# Altium integrated library Transistor.IntLib: 3457 symbols (part 8 of 78)
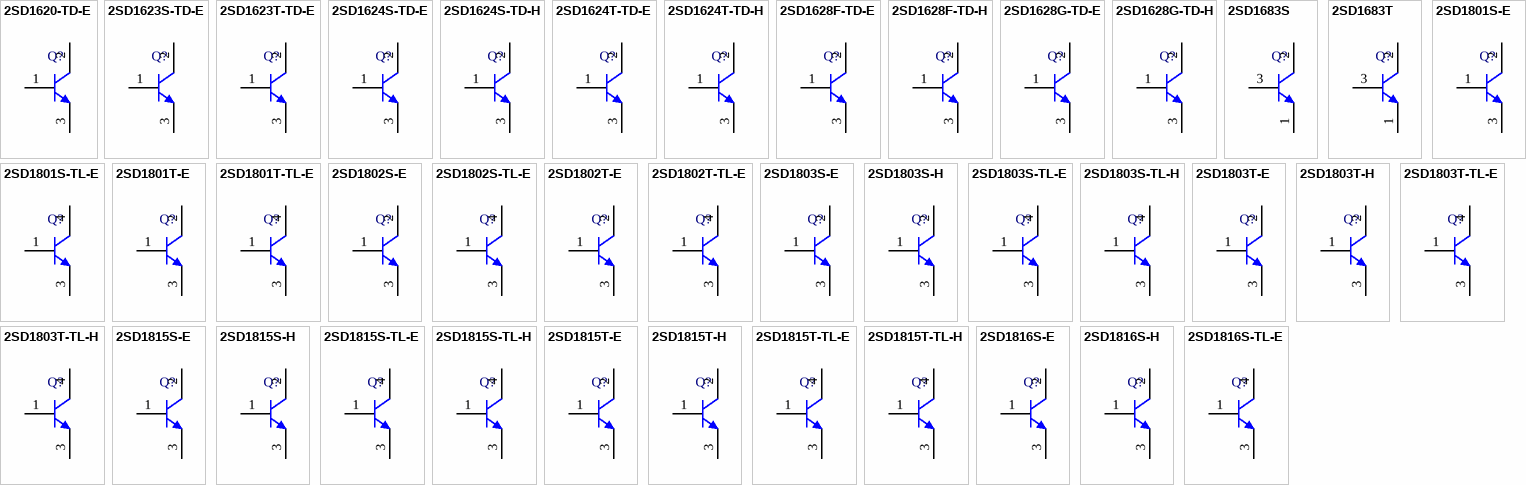
[diagram p101: symbols 2SD1620-TD-E to 2SD1816S-TL-E]

## 2SD1803S-TL-E
designator Q?
Bipolar Transistor, 50 V, 5 A, Low VCE(sat), NPN Single, 3-Pin TP-FA, Pb-Free, Tape and Reel; Manufacturer: On Semiconductor; PartNumber: 2SD1803S-TL-E; IC Continuous (A): 5; PackageVersion: Rev. O, 01/2012; PackageReference: TP-FA-3-369AH; PackageDescription: 3-Pin Flange Mount, Body 6.5 x 5.5 mm, Pitch 2.3 mm; Supplier 1: Digi-Key; Supplier Part Number 1: 2SD1803S-TL-E-ND; Supplier 2: Mouser; Supplier Part Number 2: 863-2SD1803S-TL-E; Packing: Tape and Reel; Polarity: NPN; RoHS: TRUE; Mounting Technology: Surface Mount; ComponentLink1Description: Manufacturer URL; ComponentLink1URL: http://www.onsemi.com/; ComponentLink2Description: Datasheet; ComponentLink2URL: http://www.onsemi.com/pub_link/Collateral/EN2085-D.PDF; ComponentLink3Description: Package Specification; ComponentLink3URL: http://www.onsemi.com/pub_link/Collateral/369AH.PDF
footprint ONSC-TP-FA-3-369AH_V (DPAK, 3-Leads, Body 6.5x5.5mm, Pitch 2.3mm)
pins: 1 B, 3 E, 4 C

## 2SD1803S-TL-H
designator Q?
Bipolar Transistor, 50 V, 5 A, Low VCE(sat), NPN Single, 3-Pin TP-FA, Pb-Free, Tape and Reel; Manufacturer: On Semiconductor; PartNumber: 2SD1803S-TL-H; IC Continuous (A): 5; PackageVersion: Rev. O, 01/2012; PackageReference: TP-FA-3-369AH; PackageDescription: 3-Pin Flange Mount, Body 6.5 x 5.5 mm, Pitch 2.3 mm; Supplier 1: Digi-Key; Supplier Part Number 1: 2SD1803S-TL-H-ND; Supplier 2: Mouser; Supplier Part Number 2: 863-2SD1803S-TL-H; Packing: Tape and Reel; Polarity: NPN; RoHS: TRUE; Mounting Technology: Surface Mount; ComponentLink1Description: Manufacturer URL; ComponentLink1URL: http://www.onsemi.com/; ComponentLink2Description: Datasheet; ComponentLink2URL: http://www.onsemi.com/pub_link/Collateral/EN2085-D.PDF; ComponentLink3Description: Package Specification; ComponentLink3URL: http://www.onsemi.com/pub_link/Collateral/369AH.PDF
footprint ONSC-TP-FA-3-369AH_V (DPAK, 3-Leads, Body 6.5x5.5mm, Pitch 2.3mm)
pins: 1 B, 3 E, 4 C

## 2SD1803T-E
designator Q?
Bipolar Transistor, 50 V, 5 A, Low VCE(sat), NPN Single, 3-Pin IPAK, Pb-Free, Bulk Bag; Manufacturer: On Semiconductor; PartNumber: 2SD1803T-E; IC Continuous (A): 5; PackageVersion: Rev. O, 01/2012; PackageReference: IPAK-3-369AJ; PackageDescription: 3-Pin Flange Mount, Vertical Straight Lead, Body 6.5 x 5.5 mm, Pitch 2.3 mm; Supplier 1: Digi-Key; Supplier Part Number 1: 2SD1803T-E-ND; Supplier 2: Mouser; Supplier Part Number 2: 863-2SD1803T-E; Packing: Bulk Bag; Polarity: NPN; RoHS: TRUE; Mounting Technology: Through Hole; ComponentLink1Description: Manufacturer URL; ComponentLink1URL: http://www.onsemi.com/; ComponentLink2Description: Datasheet; ComponentLink2URL: http://www.onsemi.com/pub_link/Collateral/EN2085-D.PDF; ComponentLink3Description: Package Specification; ComponentLink3URL: http://www.onsemi.cn/pub_link/Collateral/369AJ.PDF
footprint ONSC-IPAK-3-369AJ (FM, 3-Leads, Body 6.7x2.5mm, Pitch 2.3mm)
pins: 1 B, 2 C, 3 E

## 2SD1803T-H
designator Q?
Bipolar Transistor, 50 V, 5 A, Low VCE(sat), NPN Single, 3-Pin IPAK, Pb-Free, Bulk Bag; Manufacturer: On Semiconductor; PartNumber: 2SD1803T-H; IC Continuous (A): 5; PackageVersion: Rev. O, 01/2012; PackageReference: IPAK-3-369AJ; PackageDescription: 3-Pin Flange Mount, Vertical Straight Lead, Body 6.5 x 5.5 mm, Pitch 2.3 mm; Supplier 1: Digi-Key; Supplier Part Number 1: 2SD1803T-H-ND; Supplier 2: Mouser; Supplier Part Number 2: 863-2SD1803T-H; Packing: Bulk Bag; Polarity: NPN; RoHS: TRUE; Mounting Technology: Through Hole; ComponentLink1Description: Manufacturer URL; ComponentLink1URL: http://www.onsemi.com/; ComponentLink2Description: Datasheet; ComponentLink2URL: http://www.onsemi.com/pub_link/Collateral/EN2085-D.PDF; ComponentLink3Description: Package Specification; ComponentLink3URL: http://www.onsemi.cn/pub_link/Collateral/369AJ.PDF
footprint ONSC-IPAK-3-369AJ (FM, 3-Leads, Body 6.7x2.5mm, Pitch 2.3mm)
pins: 1 B, 2 C, 3 E

## 2SD1803T-TL-E
designator Q?
Bipolar Transistor, 50 V, 5 A, Low VCE(sat), NPN Single, 3-Pin TP-FA, Pb-Free, Tape and Reel; Manufacturer: On Semiconductor; PartNumber: 2SD1803T-TL-E; IC Continuous (A): 5; PackageVersion: Rev. O, 01/2012; PackageReference: TP-FA-3-369AH; PackageDescription: 3-Pin Flange Mount, Body 6.5 x 5.5 mm, Pitch 2.3 mm; Supplier 1: Digi-Key; Supplier Part Number 1: 2SD1803T-TL-E-ND; Supplier 2: Mouser; Supplier Part Number 2: 863-2SD1803T-TL-E; Packing: Tape and Reel; Polarity: NPN; RoHS: TRUE; Mounting Technology: Surface Mount; ComponentLink1Description: Manufacturer URL; ComponentLink1URL: http://www.onsemi.com/; ComponentLink2Description: Datasheet; ComponentLink2URL: http://www.onsemi.com/pub_link/Collateral/EN2085-D.PDF; ComponentLink3Description: Package Specification; ComponentLink3URL: http://www.onsemi.com/pub_link/Collateral/369AH.PDF
footprint ONSC-TP-FA-3-369AH_V (DPAK, 3-Leads, Body 6.5x5.5mm, Pitch 2.3mm)
pins: 1 B, 3 E, 4 C

## 2SD1803T-TL-H
designator Q?
Bipolar Transistor, 50 V, 5 A, Low VCE(sat), NPN Single, 3-Pin TP-FA, Pb-Free, Tape and Reel; Manufacturer: On Semiconductor; PartNumber: 2SD1803T-TL-H; IC Continuous (A): 5; PackageVersion: Rev. O, 01/2012; PackageReference: TP-FA-3-369AH; PackageDescription: 3-Pin Flange Mount, Body 6.5 x 5.5 mm, Pitch 2.3 mm; Supplier 1: Digi-Key; Supplier Part Number 1: 2SD1803T-TL-H-ND; Supplier 2: Mouser; Supplier Part Number 2: 863-2SD1803T-TL-H; Packing: Tape and Reel; Polarity: NPN; RoHS: TRUE; Mounting Technology: Surface Mount; ComponentLink1Description: Manufacturer URL; ComponentLink1URL: http://www.onsemi.com/; ComponentLink2Description: Datasheet; ComponentLink2URL: http://www.onsemi.com/pub_link/Collateral/EN2085-D.PDF; ComponentLink3Description: Package Specification; ComponentLink3URL: http://www.onsemi.com/pub_link/Collateral/369AH.PDF
footprint ONSC-TP-FA-3-369AH_V (DPAK, 3-Leads, Body 6.5x5.5mm, Pitch 2.3mm)
pins: 1 B, 3 E, 4 C

## 2SD1815S-E
designator Q?
Bipolar Transistor, 100 V, 3 A, Low VCE(sat), NPN Single, 3-Pin IPAK, Pb-Free, Bulk Bag; Manufacturer: On Semiconductor; PartNumber: 2SD1815S-E; IC Continuous (A): 3; PackageVersion: Rev. O, 01/2012; PackageReference: IPAK-3-369AJ; PackageDescription: 3-Pin Flange Mount, Vertical Straight Lead, Body 6.5 x 5.5 mm, Pitch 2.3 mm; Supplier 1: Digi-Key; Supplier Part Number 1: 2SD1815S-E-ND; Supplier 2: Newark; Supplier Part Number 2: 65T2526; Supplier 3: Mouser; Supplier Part Number 3: 863-2SD1815S-E; Packing: Bulk Bag; Polarity: NPN; RoHS: TRUE; Mounting Technology: Through Hole; ComponentLink1Description: Manufacturer URL; ComponentLink1URL: http://www.onsemi.com/; ComponentLink2Description: Datasheet; ComponentLink2URL: http://www.onsemi.com/pub/Collateral/EN2539-D.PDF; ComponentLink3Description: Package Specification; ComponentLink3URL: http://www.onsemi.cn/pub_link/Collateral/369AJ.PDF
footprint ONSC-IPAK-3-369AJ (FM, 3-Leads, Body 6.7x2.5mm, Pitch 2.3mm)
pins: 1 B, 2 C, 3 E

## 2SD1815S-H
designator Q?
Bipolar Transistor, 100 V, 3 A, Low VCE(sat), NPN Single, 3-Pin IPAK, Pb-Free, Bulk Bag; Manufacturer: On Semiconductor; PartNumber: 2SD1815S-H; IC Continuous (A): 3; PackageVersion: Rev. O, 01/2012; PackageReference: IPAK-3-369AJ; PackageDescription: 3-Pin Flange Mount, Vertical Straight Lead, Body 6.5 x 5.5 mm, Pitch 2.3 mm; Supplier 1: Digi-Key; Supplier Part Number 1: 2SD1815S-H-ND; Supplier 2: Mouser; Supplier Part Number 2: 863-2SD1815S-H; Packing: Bulk Bag; Polarity: NPN; RoHS: TRUE; Mounting Technology: Through Hole; ComponentLink1Description: Manufacturer URL; ComponentLink1URL: http://www.onsemi.com/; ComponentLink2Description: Datasheet; ComponentLink2URL: http://www.onsemi.com/pub/Collateral/EN2539-D.PDF; ComponentLink3Description: Package Specification; ComponentLink3URL: http://www.onsemi.cn/pub_link/Collateral/369AJ.PDF
footprint ONSC-IPAK-3-369AJ (FM, 3-Leads, Body 6.7x2.5mm, Pitch 2.3mm)
pins: 1 B, 2 C, 3 E

## 2SD1815S-TL-E
designator Q?
Bipolar Transistor, 100 V, 3 A, Low VCE(sat), NPN Single, 3-Pin TP-FA, Pb-Free, Tape and Reel; Manufacturer: On Semiconductor; PartNumber: 2SD1815S-TL-E; IC Continuous (A): 3; PackageVersion: Rev. O, 01/2012; PackageReference: TP-FA-3-369AH; PackageDescription: 3-Pin Flange Mount, Body 6.5 x 5.5 mm, Pitch 2.3 mm; Supplier 1: Digi-Key; Supplier Part Number 1: 2SD1815S-TL-E-ND; Supplier 2: Mouser; Supplier Part Number 2: 863-2SD1815S-TL-E; Packing: Tape and Reel; Polarity: NPN; RoHS: TRUE; Mounting Technology: Surface Mount; ComponentLink1Description: Manufacturer URL; ComponentLink1URL: http://www.onsemi.com/; ComponentLink2Description: Datasheet; ComponentLink2URL: http://www.onsemi.com/pub/Collateral/EN2539-D.PDF; ComponentLink3Description: Package Specification; ComponentLink3URL: http://www.onsemi.com/pub_link/Collateral/369AH.PDF
footprint ONSC-TP-FA-3-369AH_V (DPAK, 3-Leads, Body 6.5x5.5mm, Pitch 2.3mm)
pins: 1 B, 3 E, 4 C

## 2SD1815S-TL-H
designator Q?
Bipolar Transistor, 100 V, 3 A, Low VCE(sat), NPN Single, 3-Pin TP-FA, Pb-Free, Tape and Reel; Manufacturer: On Semiconductor; PartNumber: 2SD1815S-TL-H; IC Continuous (A): 3; PackageVersion: Rev. O, 01/2012; PackageReference: TP-FA-3-369AH; PackageDescription: 3-Pin Flange Mount, Body 6.5 x 5.5 mm, Pitch 2.3 mm; Supplier 1: Digi-Key; Supplier Part Number 1: 2SD1815S-TL-H-ND; Supplier 2: Newark; Supplier Part Number 2: 07W7712; Supplier 3: Mouser; Supplier Part Number 3: 863-2SD1815S-TL-H; Packing: Tape and Reel; Polarity: NPN; RoHS: TRUE; Mounting Technology: Surface Mount; ComponentLink1Description: Manufacturer URL; ComponentLink1URL: http://www.onsemi.com/; ComponentLink2Description: Datasheet; ComponentLink2URL: http://www.onsemi.com/pub/Collateral/EN2539-D.PDF; ComponentLink3Description: Package Specification; ComponentLink3URL: http://www.onsemi.com/pub_link/Collateral/369AH.PDF
footprint ONSC-TP-FA-3-369AH_V (DPAK, 3-Leads, Body 6.5x5.5mm, Pitch 2.3mm)
pins: 1 B, 3 E, 4 C

## 2SD1815T-E
designator Q?
Bipolar Transistor, 100 V, 3 A, Low VCE(sat), NPN Single, 3-Pin IPAK, Pb-Free, Bulk Bag; Manufacturer: On Semiconductor; PartNumber: 2SD1815T-E; IC Continuous (A): 3; PackageVersion: Rev. O, 01/2012; PackageReference: IPAK-3-369AJ; PackageDescription: 3-Pin Flange Mount, Vertical Straight Lead, Body 6.5 x 5.5 mm, Pitch 2.3 mm; Supplier 1: Digi-Key; Supplier Part Number 1: 2SD1815T-E-ND; Supplier 2: Newark; Supplier Part Number 2: 65T2528; Supplier 3: Mouser; Supplier Part Number 3: 863-2SD1815T-E; Packing: Bulk Bag; Polarity: NPN; RoHS: TRUE; Mounting Technology: Through Hole; ComponentLink1Description: Manufacturer URL; ComponentLink1URL: http://www.onsemi.com/; ComponentLink2Description: Datasheet; ComponentLink2URL: http://www.onsemi.com/pub/Collateral/EN2539-D.PDF; ComponentLink3Description: Package Specification; ComponentLink3URL: http://www.onsemi.cn/pub_link/Collateral/369AJ.PDF
footprint ONSC-IPAK-3-369AJ (FM, 3-Leads, Body 6.7x2.5mm, Pitch 2.3mm)
pins: 1 B, 2 C, 3 E

## 2SD1815T-H
designator Q?
Bipolar Transistor, 100 V, 3 A, Low VCE(sat), NPN Single, 3-Pin IPAK, Pb-Free, Bulk Bag; Manufacturer: On Semiconductor; PartNumber: 2SD1815T-H; IC Continuous (A): 3; PackageVersion: Rev. O, 01/2012; PackageReference: IPAK-3-369AJ; PackageDescription: 3-Pin Flange Mount, Vertical Straight Lead, Body 6.5 x 5.5 mm, Pitch 2.3 mm; Supplier 1: Digi-Key; Supplier Part Number 1: 2SD1815T-H-ND; Supplier 2: Mouser; Supplier Part Number 2: 863-2SD1815T-H; Packing: Bulk Bag; Polarity: NPN; RoHS: TRUE; Mounting Technology: Through Hole; ComponentLink1Description: Manufacturer URL; ComponentLink1URL: http://www.onsemi.com/; ComponentLink2Description: Datasheet; ComponentLink2URL: http://www.onsemi.com/pub/Collateral/EN2539-D.PDF; ComponentLink3Description: Package Specification; ComponentLink3URL: http://www.onsemi.cn/pub_link/Collateral/369AJ.PDF
footprint ONSC-IPAK-3-369AJ (FM, 3-Leads, Body 6.7x2.5mm, Pitch 2.3mm)
pins: 1 B, 2 C, 3 E

## 2SD1815T-TL-E
designator Q?
Bipolar Transistor, 100 V, 3 A, Low VCE(sat), NPN Single, 3-Pin TP-FA, Pb-Free, Tape and Reel; Manufacturer: On Semiconductor; PartNumber: 2SD1815T-TL-E; IC Continuous (A): 3; PackageVersion: Rev. O, 01/2012; PackageReference: TP-FA-3-369AH; PackageDescription: 3-Pin Flange Mount, Body 6.5 x 5.5 mm, Pitch 2.3 mm; Supplier 1: Digi-Key; Supplier Part Number 1: 2SD1815T-TL-E-ND; Supplier 2: Mouser; Supplier Part Number 2: 863-2SD1815T-TL-E; Packing: Tape and Reel; Polarity: NPN; RoHS: TRUE; Mounting Technology: Surface Mount; ComponentLink1Description: Manufacturer URL; ComponentLink1URL: http://www.onsemi.com/; ComponentLink2Description: Datasheet; ComponentLink2URL: http://www.onsemi.com/pub/Collateral/EN2539-D.PDF; ComponentLink3Description: Package Specification; ComponentLink3URL: http://www.onsemi.com/pub_link/Collateral/369AH.PDF
footprint ONSC-TP-FA-3-369AH_V (DPAK, 3-Leads, Body 6.5x5.5mm, Pitch 2.3mm)
pins: 1 B, 3 E, 4 C

## 2SD1815T-TL-H
designator Q?
Bipolar Transistor, 100 V, 3 A, Low VCE(sat), NPN Single, 3-Pin TP-FA, Pb-Free, Tape and Reel; Manufacturer: On Semiconductor; PartNumber: 2SD1815T-TL-H; IC Continuous (A): 3; PackageVersion: Rev. O, 01/2012; PackageReference: TP-FA-3-369AH; PackageDescription: 3-Pin Flange Mount, Body 6.5 x 5.5 mm, Pitch 2.3 mm; Supplier 1: Digi-Key; Supplier Part Number 1: 2SD1815T-TL-H-ND; Supplier 2: Newark; Supplier Part Number 2: 07W7714; Supplier 3: Mouser; Supplier Part Number 3: 863-2SD1815T-TL-H; Packing: Tape and Reel; Polarity: NPN; RoHS: TRUE; Mounting Technology: Surface Mount; ComponentLink1Description: Manufacturer URL; ComponentLink1URL: http://www.onsemi.com/; ComponentLink2Description: Datasheet; ComponentLink2URL: http://www.onsemi.com/pub/Collateral/EN2539-D.PDF; ComponentLink3Description: Package Specification; ComponentLink3URL: http://www.onsemi.com/pub_link/Collateral/369AH.PDF
footprint ONSC-TP-FA-3-369AH_V (DPAK, 3-Leads, Body 6.5x5.5mm, Pitch 2.3mm)
pins: 1 B, 3 E, 4 C

## 2SD1816S-E
designator Q?
Bipolar Transistor, 100 V, 4 A, Low VCE(sat), NPN Single, 3-Pin IPAK, Pb-Free, Bulk Bag; Manufacturer: On Semiconductor; PartNumber: 2SD1816S-E; IC Continuous (A): 4; PackageVersion: Rev. O, 01/2012; PackageReference: IPAK-3-369AJ; PackageDescription: 3-Pin Flange Mount, Vertical Straight Lead, Body 6.5 x 5.5 mm, Pitch 2.3 mm; Supplier 1: Digi-Key; Supplier Part Number 1: 2SD1816S-E-ND; Supplier 2: Mouser; Supplier Part Number 2: 863-2SD1816S-E; Packing: Bulk Bag; Polarity: NPN; RoHS: TRUE; Mounting Technology: Through Hole; ComponentLink1Description: Manufacturer URL; ComponentLink1URL: http://www.onsemi.com/; ComponentLink2Description: Datasheet; ComponentLink2URL: http://www.onsemi.com/pub_link/Collateral/EN2540-D.PDF; ComponentLink3Description: Package Specification; ComponentLink3URL: http://www.onsemi.cn/pub_link/Collateral/369AJ.PDF
footprint ONSC-IPAK-3-369AJ (FM, 3-Leads, Body 6.7x2.5mm, Pitch 2.3mm)
pins: 1 B, 2 C, 3 E

## 2SD1816S-H
designator Q?
Bipolar Transistor, 100 V, 4 A, Low VCE(sat), NPN Single, 3-Pin IPAK, Pb-Free, Bulk Bag; Manufacturer: On Semiconductor; PartNumber: 2SD1816S-H; IC Continuous (A): 4; PackageVersion: Rev. O, 01/2012; PackageReference: IPAK-3-369AJ; PackageDescription: 3-Pin Flange Mount, Vertical Straight Lead, Body 6.5 x 5.5 mm, Pitch 2.3 mm; Supplier 1: Digi-Key; Supplier Part Number 1: 2SD1816S-H-ND; Supplier 2: Mouser; Supplier Part Number 2: 863-2SD1816S-H; Packing: Bulk Bag; Polarity: NPN; RoHS: TRUE; Mounting Technology: Through Hole; ComponentLink1Description: Manufacturer URL; ComponentLink1URL: http://www.onsemi.com/; ComponentLink2Description: Datasheet; ComponentLink2URL: http://www.onsemi.com/pub_link/Collateral/EN2540-D.PDF; ComponentLink3Description: Package Specification; ComponentLink3URL: http://www.onsemi.cn/pub_link/Collateral/369AJ.PDF
footprint ONSC-IPAK-3-369AJ (FM, 3-Leads, Body 6.7x2.5mm, Pitch 2.3mm)
pins: 1 B, 2 C, 3 E

## 2SD1816S-TL-E
designator Q?
Bipolar Transistor, 100 V, 4 A, Low VCE(sat), NPN Single, 3-Pin TP-FA, Pb-Free, Tape and Reel; Manufacturer: On Semiconductor; PartNumber: 2SD1816S-TL-E; IC Continuous (A): 4; PackageVersion: Rev. O, 01/2012; PackageReference: TP-FA-3-369AH; PackageDescription: 3-Pin Flange Mount, Body 6.5 x 5.5 mm, Pitch 2.3 mm; Supplier 1: Digi-Key; Supplier Part Number 1: 2SD1816S-TL-E-ND; Supplier 2: Mouser; Supplier Part Number 2: 863-2SD1816S-TL-E; Packing: Tape and Reel; Polarity: NPN; RoHS: TRUE; Mounting Technology: Surface Mount; ComponentLink1Description: Manufacturer URL; ComponentLink1URL: http://www.onsemi.com/; ComponentLink2Description: Datasheet; ComponentLink2URL: http://www.onsemi.com/pub_link/Collateral/EN2540-D.PDF; ComponentLink3Description: Package Specification; ComponentLink3URL: http://www.onsemi.com/pub_link/Collateral/369AH.PDF
footprint ONSC-TP-FA-3-369AH_V (DPAK, 3-Leads, Body 6.5x5.5mm, Pitch 2.3mm)
pins: 1 B, 3 E, 4 C

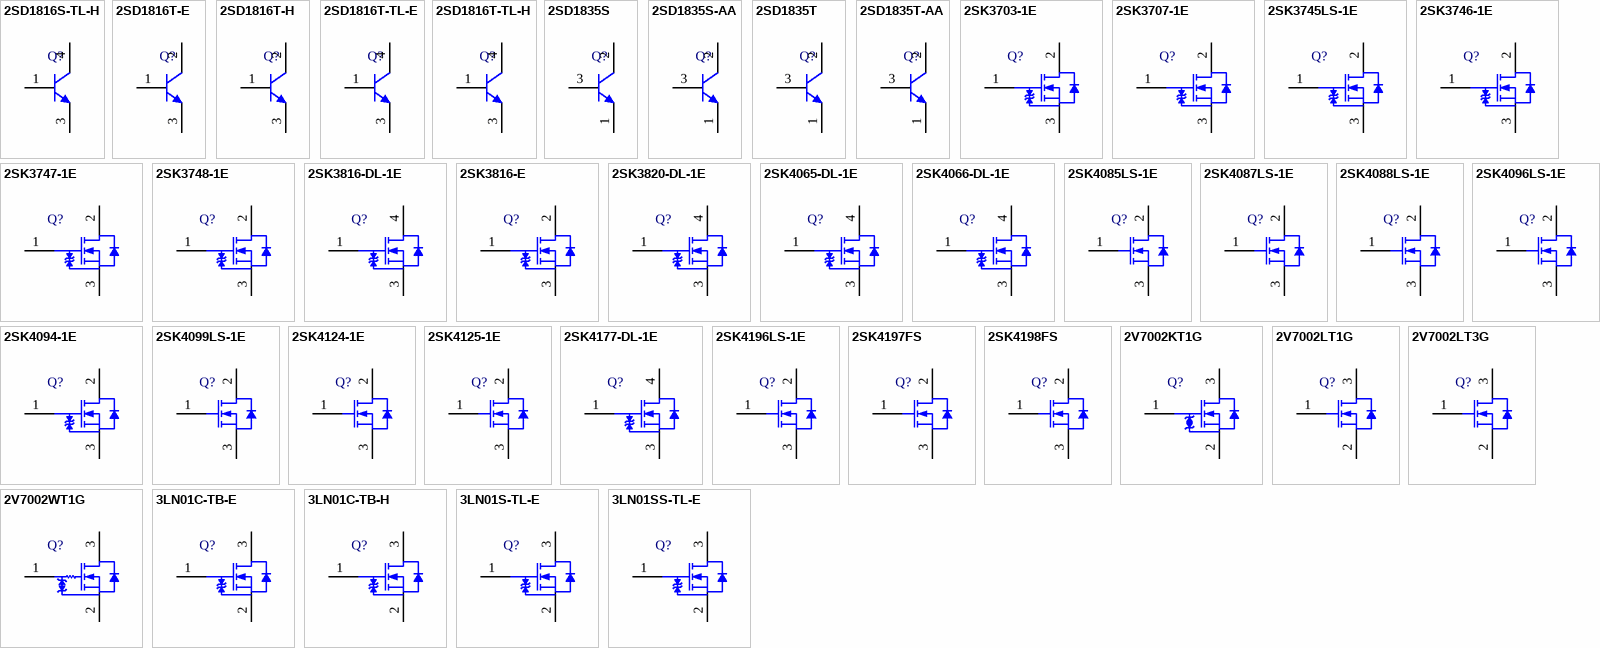
[diagram p9: symbols 2SD1816S-TL-H to 3LN01SS-TL-E]

## 2SD1816S-TL-H
designator Q?
Bipolar Transistor, 100 V, 4 A, Low VCE(sat), NPN Single, 3-Pin TP-FA, Pb-Free, Tape and Reel; Manufacturer: On Semiconductor; PartNumber: 2SD1816S-TL-H; IC Continuous (A): 4; PackageVersion: Rev. O, 01/2012; PackageReference: TP-FA-3-369AH; PackageDescription: 3-Pin Flange Mount, Body 6.5 x 5.5 mm, Pitch 2.3 mm; Supplier 1: Digi-Key; Supplier Part Number 1: 2SD1816S-TL-H-ND; Supplier 2: Mouser; Supplier Part Number 2: 863-2SD1816S-TL-H; Packing: Tape and Reel; Polarity: NPN; RoHS: TRUE; Mounting Technology: Surface Mount; ComponentLink1Description: Manufacturer URL; ComponentLink1URL: http://www.onsemi.com/; ComponentLink2Description: Datasheet; ComponentLink2URL: http://www.onsemi.com/pub_link/Collateral/EN2540-D.PDF; ComponentLink3Description: Package Specification; ComponentLink3URL: http://www.onsemi.com/pub_link/Collateral/369AH.PDF
footprint ONSC-TP-FA-3-369AH_V (DPAK, 3-Leads, Body 6.5x5.5mm, Pitch 2.3mm)
pins: 1 B, 3 E, 4 C

## 2SD1816T-E
designator Q?
Bipolar Transistor, 100 V, 4 A, Low VCE(sat), NPN Single, 3-Pin IPAK, Pb-Free, Bulk Bag; Manufacturer: On Semiconductor; PartNumber: 2SD1816T-E; IC Continuous (A): 4; PackageVersion: Rev. O, 01/2012; PackageReference: IPAK-3-369AJ; PackageDescription: 3-Pin Flange Mount, Vertical Straight Lead, Body 6.5 x 5.5 mm, Pitch 2.3 mm; Supplier 1: Digi-Key; Supplier Part Number 1: 2SD1816T-E-ND; Supplier 2: Mouser; Supplier Part Number 2: 863-2SD1816T-E; Packing: Bulk Bag; Polarity: NPN; RoHS: TRUE; Mounting Technology: Through Hole; ComponentLink1Description: Manufacturer URL; ComponentLink1URL: http://www.onsemi.com/; ComponentLink2Description: Datasheet; ComponentLink2URL: http://www.onsemi.com/pub_link/Collateral/EN2540-D.PDF; ComponentLink3Description: Package Specification; ComponentLink3URL: http://www.onsemi.cn/pub_link/Collateral/369AJ.PDF
footprint ONSC-IPAK-3-369AJ (FM, 3-Leads, Body 6.7x2.5mm, Pitch 2.3mm)
pins: 1 B, 2 C, 3 E

## 2SD1816T-H
designator Q?
Bipolar Transistor, 100 V, 4 A, Low VCE(sat), NPN Single, 3-Pin IPAK, Pb-Free, Bulk Bag; Manufacturer: On Semiconductor; PartNumber: 2SD1816T-H; IC Continuous (A): 4; PackageVersion: Rev. O, 01/2012; PackageReference: IPAK-3-369AJ; PackageDescription: 3-Pin Flange Mount, Vertical Straight Lead, Body 6.5 x 5.5 mm, Pitch 2.3 mm; Supplier 1: Digi-Key; Supplier Part Number 1: 2SD1816T-H-ND; Supplier 2: Mouser; Supplier Part Number 2: 863-2SD1816T-H; Packing: Bulk Bag; Polarity: NPN; RoHS: TRUE; Mounting Technology: Through Hole; ComponentLink1Description: Manufacturer URL; ComponentLink1URL: http://www.onsemi.com/; ComponentLink2Description: Datasheet; ComponentLink2URL: http://www.onsemi.com/pub_link/Collateral/EN2540-D.PDF; ComponentLink3Description: Package Specification; ComponentLink3URL: http://www.onsemi.cn/pub_link/Collateral/369AJ.PDF
footprint ONSC-IPAK-3-369AJ (FM, 3-Leads, Body 6.7x2.5mm, Pitch 2.3mm)
pins: 1 B, 2 C, 3 E

## 2SD1816T-TL-E
designator Q?
Bipolar Transistor, 100 V, 4 A, Low VCE(sat), NPN Single, 3-Pin TP-FA, Pb-Free, Tape and Reel; Manufacturer: On Semiconductor; PartNumber: 2SD1816T-TL-E; IC Continuous (A): 4; PackageVersion: Rev. O, 01/2012; PackageReference: TP-FA-3-369AH; PackageDescription: 3-Pin Flange Mount, Body 6.5 x 5.5 mm, Pitch 2.3 mm; Supplier 1: Digi-Key; Supplier Part Number 1: 2SD1816T-TL-E-ND; Supplier 2: Mouser; Supplier Part Number 2: 863-2SD1816T-TL-E; Packing: Tape and Reel; Polarity: NPN; RoHS: TRUE; Mounting Technology: Surface Mount; ComponentLink1Description: Manufacturer URL; ComponentLink1URL: http://www.onsemi.com/; ComponentLink2Description: Datasheet; ComponentLink2URL: http://www.onsemi.com/pub_link/Collateral/EN2540-D.PDF; ComponentLink3Description: Package Specification; ComponentLink3URL: http://www.onsemi.com/pub_link/Collateral/369AH.PDF
footprint ONSC-TP-FA-3-369AH_V (DPAK, 3-Leads, Body 6.5x5.5mm, Pitch 2.3mm)
pins: 1 B, 3 E, 4 C

## 2SD1816T-TL-H
designator Q?
Bipolar Transistor, 100 V, 4 A, Low VCE(sat), NPN Single, 3-Pin TP-FA, Pb-Free, Tape and Reel; Manufacturer: On Semiconductor; PartNumber: 2SD1816T-TL-H; IC Continuous (A): 4; PackageVersion: Rev. O, 01/2012; PackageReference: TP-FA-3-369AH; PackageDescription: 3-Pin Flange Mount, Body 6.5 x 5.5 mm, Pitch 2.3 mm; Supplier 1: Digi-Key; Supplier Part Number 1: 2SD1816T-TL-H-ND; Supplier 2: Mouser; Supplier Part Number 2: 863-2SD1816T-TL-H; Packing: Tape and Reel; Polarity: NPN; RoHS: TRUE; Mounting Technology: Surface Mount; ComponentLink1Description: Manufacturer URL; ComponentLink1URL: http://www.onsemi.com/; ComponentLink2Description: Datasheet; ComponentLink2URL: http://www.onsemi.com/pub_link/Collateral/EN2540-D.PDF; ComponentLink3Description: Package Specification; ComponentLink3URL: http://www.onsemi.com/pub_link/Collateral/369AH.PDF
footprint ONSC-TP-FA-3-369AH_V (DPAK, 3-Leads, Body 6.5x5.5mm, Pitch 2.3mm)
pins: 1 B, 3 E, 4 C

## 2SD1835S
designator Q?
Bipolar Transistor, 50 V, 2 A, Low VCE(sat), NPN Single, 3-Pin NP, Pb-Free, Bulk Bag; Manufacturer: On Semiconductor; PartNumber: 2SD1835S; IC Continuous (A): 2; PackageVersion: Rev. O, 03/2012; PackageReference: NP-3-135AE; PackageDescription: 3-Pin Transistor Outline, Body 5 x 4 mm, Pitch 1.3 mm; Supplier 1: Digi-Key; Supplier Part Number 1: 2SD1835S-ND; Supplier 2: Newark; Supplier Part Number 2: 07W7720; Supplier 3: Mouser; Supplier Part Number 3: 863-2SD1835S; Packing: Bulk Bag; Polarity: NPN; RoHS: TRUE; Mounting Technology: Through Hole; ComponentLink1Description: Manufacturer URL; ComponentLink1URL: http://www.onsemi.com/; ComponentLink2Description: Datasheet; ComponentLink2URL: http://www.onsemi.com/pub_link/Collateral/EN2158-D.PDF; ComponentLink3Description: Package Specification; ComponentLink3URL: http://www.onsemi.com/pub_link/Collateral/135AE.PDF
footprint ONSC-NP-3-135AE (TO, 3-Leads, Body Dia 5 mm, Pitch 1.3 mm)
pins: 1 E, 2 C, 3 B

## 2SD1835S-AA
designator Q?
Bipolar Transistor, 50 V, 2 A, Low VCE(sat), NPN Single, 3-Pin NP, Pb-Free, Bulk Box; Manufacturer: On Semiconductor; PartNumber: 2SD1835S-AA; IC Continuous (A): 2; PackageReference: NP-3-135AE_AA; PackageDescription: 3-Pin NP, Body 4 x 5 mm, Pitch 1.3 mm; Supplier 1: Digi-Key; Supplier Part Number 1: 2SD1835S-AA-ND; Supplier 2: Newark; Supplier Part Number 2: 65T2531; Supplier 3: Mouser; Supplier Part Number 3: 863-2SD1835S-AA; Packing: Bulk Box; Polarity: NPN; RoHS: TRUE; Mounting Technology: Through Hole; ComponentLink1Description: Manufacturer URL; ComponentLink1URL: http://www.onsemi.com/; ComponentLink2Description: Datasheet; ComponentLink2URL: http://www.onsemi.com/pub_link/Collateral/EN2158-D.PDF; ComponentLink3Description: Package Specification; ComponentLink3URL: http://www.onsemi.com/pub_link/Collateral/EN2158-D.PDF
footprint ONSC-NP-3-135AE_AA_V (NP, 3-Leads, Body 5x4mm, Pitch 1.3mm)
pins: 1 E, 2 C, 3 B

## 2SD1835T
designator Q?
Bipolar Transistor, 50 V, 2 A, Low VCE(sat), NPN Single, 3-Pin NP, Pb-Free, Bulk Bag; Manufacturer: On Semiconductor; PartNumber: 2SD1835T; IC Continuous (A): 2; PackageVersion: Rev. O, 03/2012; PackageReference: NP-3-135AE; PackageDescription: 3-Pin Transistor Outline, Body 5 x 4 mm, Pitch 1.3 mm; Supplier 1: Digi-Key; Supplier Part Number 1: 2SD1835T-ND; Supplier 2: Mouser; Supplier Part Number 2: 863-2SD1835T; Packing: Bulk Bag; Polarity: NPN; RoHS: TRUE; Mounting Technology: Through Hole; ComponentLink1Description: Manufacturer URL; ComponentLink1URL: http://www.onsemi.com/; ComponentLink2Description: Datasheet; ComponentLink2URL: http://www.onsemi.com/pub_link/Collateral/EN2158-D.PDF; ComponentLink3Description: Package Specification; ComponentLink3URL: http://www.onsemi.com/pub_link/Collateral/135AE.PDF
footprint ONSC-NP-3-135AE (TO, 3-Leads, Body Dia 5 mm, Pitch 1.3 mm)
pins: 1 E, 2 C, 3 B

## 2SD1835T-AA
designator Q?
Bipolar Transistor, 50 V, 2 A, Low VCE(sat), NPN Single, 3-Pin NP, Pb-Free, Bulk Box; Manufacturer: On Semiconductor; PartNumber: 2SD1835T-AA; IC Continuous (A): 2; PackageReference: NP-3-135AE_AA; PackageDescription: 3-Pin NP, Body 4 x 5 mm, Pitch 1.3 mm; Supplier 1: Digi-Key; Supplier Part Number 1: 2SD1835T-AA-ND; Supplier 2: Mouser; Supplier Part Number 2: 863-2SD1835T-AA; Packing: Bulk Box; Polarity: NPN; RoHS: TRUE; Mounting Technology: Through Hole; ComponentLink1Description: Manufacturer URL; ComponentLink1URL: http://www.onsemi.com/; ComponentLink2Description: Datasheet; ComponentLink2URL: http://www.onsemi.com/pub_link/Collateral/EN2158-D.PDF; ComponentLink3Description: Package Specification; ComponentLink3URL: http://www.onsemi.com/pub_link/Collateral/EN2158-D.PDF
footprint ONSC-NP-3-135AE_AA_V (NP, 3-Leads, Body 5x4mm, Pitch 1.3mm)
pins: 1 E, 2 C, 3 B

## 2SK3703-1E
designator Q?
N-Channel Power MOSFET, 60 V, 30 A, 26 mOhm, 3-Pin TO-220, Pb-Free, Tube; Manufacturer: On Semiconductor; PartNumber: 2SK3703-1E; Channel Polarity: N Channel; Ciss Typ (pF): 1780; Configuration: Single; Coss Typ (pF): 266; Crss Typ (pF): 197; ID Max (A): 30; V(BR)DSS Min (V): 60; VGS Max (V): 20; VGS(th) Max (V): 2.6; PackageVersion: Rev. O, 11/2013; PackageReference: TO-220F-3FG-3-221AT; PackageDescription: 3-Pin Flange Mount, Vertical Straight Lead, Body 10.16 x 4.7 mm, Pitch 2.54 mm; Supplier 1: Newark; Supplier Part Number 1: 60W2033; Supplier 2: Mouser; Supplier Part Number 2: 863-2SK3703-1E; Package Type: TO-220 Fullpack, 3-Lead / TO-220F-3SG; Packing: Tube; RoHS: Pb-Free; Mounting Technology: Through Hole; ComponentLink1Description: Manufacturer URL; ComponentLink1URL: http://www.onsemi.com/; ComponentLink2Description: Datasheet; ComponentLink2URL: http://www.onsemi.com/pub_link/Collateral/2SK3703-D.PDF; ComponentLink3Description: Package Specification; ComponentLink3URL: http://www.onsemi.com/pub_link/Collateral/221AT.PDF
footprint ONSC-TO-220F-3FG-3-221AT (FM, 3-Leads, Body 10.4x4.9mm, Pitch 2.54mm)
pins: 1 G, 2 D, 3 S

## 2SK3707-1E
designator Q?
N-Channel Power MOSFET, 100 V, 20 A, 60 mOhm, 3-Pin TO-220, Pb-Free, Fan-Fold; Manufacturer: On Semiconductor; PartNumber: 2SK3707-1E; Channel Polarity: N Channel; Ciss Typ (pF): 2150; Configuration: Single; Coss Typ (pF): 160; Crss Typ (pF): 110; ID Max (A): 20; V(BR)DSS Min (V): 100; VGS(th) Max (V): 2.6; PackageVersion: Rev. O, 11/2013; PackageReference: TO-220F-3FG-3-221AT; PackageDescription: 3-Pin Flange Mount, Vertical Straight Lead, Body 10.16 x 4.7 mm, Pitch 2.54 mm; Supplier 1: Newark; Supplier Part Number 1: 60W2034; Supplier 2: Mouser; Supplier Part Number 2: 863-2SK3707-1E; Package Type: TO-220 Fullpack, 3-Lead / TO-220F-3SG; Packing: Fan-Fold; RoHS: Pb-Free; VGS Max (V): 20; Mounting Technology: Through Hole; ComponentLink1Description: Manufacturer URL; ComponentLink1URL: http://www.onsemi.com/; ComponentLink2Description: Datasheet; ComponentLink2URL: http://www.onsemi.com/pub_link/Collateral/2SK3707-D.PDF; ComponentLink3Description: Package Specification; ComponentLink3URL: http://www.onsemi.com/pub_link/Collateral/221AT.PDF
footprint ONSC-TO-220F-3FG-3-221AT (FM, 3-Leads, Body 10.4x4.9mm, Pitch 2.54mm)
pins: 1 G, 2 D, 3 S

## 2SK3745LS-1E
designator Q?
N-Channel Power MOSFET, 1500 V, 2 A, 13 Ohm, 3-Pin TO-220, Pb-Free, Tube; Manufacturer: On Semiconductor; PartNumber: 2SK3745LS-1E; Channel Polarity: N Channel; Ciss Typ (pF): 380; Configuration: Single; Coss Typ (pF): 70; Crss Typ (pF): 40; ID Max (A): 2; V(BR)DSS Min (V): 1500; VGS Max (V): 20; VGS(th) Max (V): 3.5; PackageVersion: Rev. O, 01/2012; PackageReference: TO-220F-3FS-3-221AM; PackageDescription: 3-Pin Flange Mount, Vertical Straight Lead, Body 10.16 x 4.7 mm, Pitch 2.54 mm; Supplier 1: Newark; Supplier Part Number 1: 45W5069; Supplier 2: Mouser; Supplier Part Number 2: 863-2SK3745LS-1E; Package Type: TO-220F-3FS; Packing: Tube; RoHS: Pb-Free; Mounting Technology: Through Hole; ComponentLink1Description: Manufacturer URL; ComponentLink1URL: http://www.onsemi.com/; ComponentLink2Description: Datasheet; ComponentLink2URL: http://www.onsemi.com/pub_link/Collateral/2SK3745LS-D.PDF; ComponentLink3Description: Package Specification; ComponentLink3URL: http://www.onsemi.com/pub_link/Collateral/221AM.PDF
footprint ONSC-TO-220F-3FS-3-221AM (FM, 3-Leads, Body 10.4x4.9mm, Pitch 2.54mm)
pins: 1 G, 2 D, 3 S

## 2SK3746-1E
designator Q?
N-Channel Power MOSFET, 1500 V, 2 A, 13 Ohm, 3-Pin TO-3P, Pb-Free, Tube; Manufacturer: On Semiconductor; PartNumber: 2SK3746-1E; Channel Polarity: N Channel; Ciss Typ (pF): 380; Configuration: Single; Coss Typ (pF): 70; Crss Typ (pF): 40; ID Max (A): 2; V(BR)DSS Min (V): 1500; VGS Max (V): 20; VGS(th) Max (V): 3.5; PackageVersion: Rev. O, 04/2012; PackageReference: TO-3P-3L-3-340AF; PackageDescription: 3-Pin Flange Mount, Vertical Straight Lead, Body 15.6 x 4.8 mm, Pitch 5.45 mm; Supplier 1: Mouser; Supplier Part Number 1: 863-2SK3746-1E; Package Type: TO-3P-3L; Packing: Tube; RoHS: Pb-Free; Mounting Technology: Through Hole; ComponentLink1Description: Manufacturer URL; ComponentLink1URL: http://www.onsemi.com/; ComponentLink2Description: Datasheet; ComponentLink2URL: http://www.onsemi.com/pub_link/Collateral/2SK3746-D.PDF; ComponentLink3Description: Package Specification; ComponentLink3URL: http://www.onsemi.com/pub_link/Collateral/340AF.PDF
footprint ONSC-TO-3P-3L-3-340AF (FM, 3-Leads, Body 15.8x5mm, Pitch 5.45mm)
pins: 1 G, 2 D, 3 S

## 2SK3747-1E
designator Q?
N-Channel Power MOSFET, 1500 V, 2 A, 13 Ohm, 3-Pin TO-3PF, Pb-Free, Tube; Manufacturer: On Semiconductor; PartNumber: 2SK3747-1E; Channel Polarity: N Channel; Ciss Typ (pF): 380; Configuration: Single; Coss Typ (pF): 70; Crss Typ (pF): 40; ID Max (A): 2; V(BR)DSS Min (V): 1500; VGS Max (V): 35; VGS(th) Max (V): 3.5; PackageVersion: Rev. O, 04/2012; PackageReference: TO-3PF-3L-3-340AH; PackageDescription: 3-Pin Flange Mount, Body 15.5 x 5.5 mm, Pitch 5.45 mm; Supplier 1: Newark; Supplier Part Number 1: 45W5071; Supplier 2: Mouser; Supplier Part Number 2: 863-2SK3747-1E; Package Type: TO-3PF-3L; Packing: Tube; RoHS: Pb-Free; Mounting Technology: Through Hole; ComponentLink1Description: Manufacturer URL; ComponentLink1URL: http://www.onsemi.com/; ComponentLink2Description: Datasheet; ComponentLink2URL: http://www.onsemi.com/pub_link/Collateral/2SK3747-D.PDF; ComponentLink3Description: Package Specification; ComponentLink3URL: http://www.onsemi.com/pub_link/Collateral/340AH.PDF
footprint ONSC-TO-3PF-3L-3-340AH (FM, 3-Leads, Body 15.7x5.7mm, Pitch 5.45mm)
pins: 1 G, 2 D, 3 S

## 2SK3748-1E
designator Q?
N-Channel Power MOSFET, 1500 V, 4 A, 7 Ohm, 3-Pin TO-3PF, Pb-Free, Tube; Manufacturer: On Semiconductor; PartNumber: 2SK3748-1E; Channel Polarity: N Channel; Ciss Typ (pF): 790; Configuration: Single; Coss Typ (pF): 140; Crss Typ (pF): 70; ID Max (A): 4; V(BR)DSS Min (V): 1500; VGS Max (V): 20; VGS(th) Max (V): 3.5; PackageVersion: Rev. O, 04/2012; PackageReference: TO-3PF-3L-3-340AH; PackageDescription: 3-Pin Flange Mount, Body 15.5 x 5.5 mm, Pitch 5.45 mm; Supplier 1: Newark; Supplier Part Number 1: 45W5072; Supplier 2: Mouser; Supplier Part Number 2: 863-2SK3748-1E; Package Type: TO-3PF-3L; Packing: Tube; RoHS: Pb-Free; Mounting Technology: Through Hole; ComponentLink1Description: Manufacturer URL; ComponentLink1URL: http://www.onsemi.com/; ComponentLink2Description: Datasheet; ComponentLink2URL: http://www.onsemi.com/pub_link/Collateral/2SK3748-D.PDF; ComponentLink3Description: Package Specification; ComponentLink3URL: http://www.onsemi.com/pub_link/Collateral/340AH.PDF
footprint ONSC-TO-3PF-3L-3-340AH (FM, 3-Leads, Body 15.7x5.7mm, Pitch 5.45mm)
pins: 1 G, 2 D, 3 S

## 2SK3816-DL-1E
designator Q?
N-Channel Power MOSFET, 60 V, 40 A, 26 mOhm, 3-Pin TO-263, Pb-Free, Tape and Reel; Manufacturer: On Semiconductor; PartNumber: 2SK3816-DL-1E; Channel Polarity: N Channel; Ciss Typ (pF): 1780; Configuration: Single; Coss Typ (pF): 266; Crss Typ (pF): 197; ID Max (A): 40; V(BR)DSS Min (V): 60; VGS Max (V): 20; VGS(th) Max (V): 2.6; PackageReference: TO-263-2L-3; PackageDescription: 3-Pin Flange Mount, Body 10 x 9.2 mm, Pitch 2.54 mm; Supplier 1: Newark; Supplier Part Number 1: 97W6592; Supplier 2: Mouser; Supplier Part Number 2: 863-2SK3816-DL-1E; Package Type: D2PAK / TO-263-2L; Packing: Tape and Reel; RoHS: Pb-Free; Mounting Technology: Surface Mount; ComponentLink1Description: Manufacturer URL; ComponentLink1URL: http://www.onsemi.com/; ComponentLink2Description: Datasheet; ComponentLink2URL: http://www.onsemi.com/pub/Collateral/ENN8054-D.PDF; ComponentLink3Description: Package Specification; ComponentLink3URL: http://www.onsemi.com/pub_link/Collateral/2SK3820-D.PDF
footprint ONSC-TO-263-2L-3_V (FM, 3-Leads, Body 10x9.2mm, Pitch 2.54mm)
pins: 1 G, 3 S, 4 D

## 2SK3816-E
designator Q?
N-Channel Power MOSFET, 60 V, 40 A, 26 mOhm, 3-Pin TO-262, Pb-Free, Bulk Bag; Manufacturer: On Semiconductor; PartNumber: 2SK3816-E; Channel Polarity: N Channel; Ciss Typ (pF): 1780; Configuration: Single; Coss Typ (pF): 266; Crss Typ (pF): 197; ID Max (A): 40; V(BR)DSS Min (V): 60; VGS Max (V): 20; VGS(th) Max (V): 2.6; PackageVersion: Rev. O, 03/2012; PackageReference: TO-262-3L-3-418AN; PackageDescription: 3-Pin Flange Mount, Vertical Straight Lead, Body 10 x 4.5 mm, Pitch 2.54 mm; Package Type: D2PAK / TO-263-2L; Packing: Bulk Bag; RoHS: Pb-Free; Mounting Technology: Through Hole; ComponentLink1Description: Manufacturer URL; ComponentLink1URL: http://www.onsemi.com/; ComponentLink2Description: Datasheet; ComponentLink2URL: http://www.onsemi.com/pub/Collateral/ENN8054-D.PDF; ComponentLink3Description: Package Specification; ComponentLink3URL: http://www.onsemi.com/pub_link/Collateral/418AN.PDF
footprint ONSC-TO-262-3L-3-418AN (FM, 3-Leads, Body 10.2x4.7mm, Pitch 2.54mm)
pins: 1 G, 2 D, 3 S

## 2SK3820-DL-1E
designator Q?
N-Channel Power MOSFET, 100 V, 26 A, 60 mOhm, 3-Pin TO-263, Pb-Free, Tape and Reel; Manufacturer: On Semiconductor; PartNumber: 2SK3820-DL-1E; Channel Polarity: N Channel; Ciss Typ (pF): 2150; Configuration: Single; Coss Typ (pF): 160; Crss Typ (pF): 110; ID Max (A): 26; V(BR)DSS Min (V): 100; VGS Max (V): 20; VGS(th) Max (V): 2.6; PackageReference: TO-263-2L-3; PackageDescription: 3-Pin Flange Mount, Body 10 x 9.2 mm, Pitch 2.54 mm; Supplier 1: Newark; Supplier Part Number 1: 97W6593; Supplier 2: Mouser; Supplier Part Number 2: 863-2SK3820-DL-1E; Package Type: D2PAK / TO-263-2L; Packing: Tape and Reel; RoHS: Pb-Free; Mounting Technology: Surface Mount; ComponentLink1Description: Manufacturer URL; ComponentLink1URL: http://www.onsemi.com/; ComponentLink2Description: Datasheet; ComponentLink2URL: http://www.onsemi.com/pub_link/Collateral/2SK3820-D.PDF; ComponentLink3Description: Package Specification; ComponentLink3URL: http://www.onsemi.com/pub_link/Collateral/2SK3820-D.PDF
footprint ONSC-TO-263-2L-3_V (FM, 3-Leads, Body 10x9.2mm, Pitch 2.54mm)
pins: 1 G, 3 S, 4 D

## 2SK4065-DL-1E
designator Q?
N-Channel Power MOSFET, 75 V, 100 A, 6 mOhm, 3-Pin TO-263, Pb-Free, Tape and Reel; Manufacturer: On Semiconductor; PartNumber: 2SK4065-DL-1E; Channel Polarity: N Channel; Ciss Typ (pF): 12200; Configuration: Single; Coss Typ (pF): 950; Crss Typ (pF): 730; ID Max (A): 100; V(BR)DSS Min (V): 75; VGS Max (V): 20; VGS(th) Max (V): 2.6; PackageReference: TO-263-2L-3; PackageDescription: 3-Pin Flange Mount, Body 10 x 9.2 mm, Pitch 2.54 mm; Supplier 1: Newark; Supplier Part Number 1: 60W2036; Supplier 2: Mouser; Supplier Part Number 2: 863-2SK4065-DL-1E; Package Type: D2PAK / TO-263-2L; Packing: Tape and Reel; RoHS: Pb-Free; Mounting Technology: Surface Mount; ComponentLink1Description: Manufacturer URL; ComponentLink1URL: http://www.onsemi.com/; ComponentLink2Description: Datasheet; ComponentLink2URL: http://www.onsemi.com/pub_link/Collateral/2SK4065-D.PDF; ComponentLink3Description: Package Specification; ComponentLink3URL: http://www.onsemi.com/pub_link/Collateral/2SK3820-D.PDF
footprint ONSC-TO-263-2L-3_V (FM, 3-Leads, Body 10x9.2mm, Pitch 2.54mm)
pins: 1 G, 3 S, 4 D

## 2SK4066-DL-1E
designator Q?
N-Channel Power MOSFET, 60 V, 100 A, 4.7 mOhm, 3-Pin TO-263, Pb-Free, Tape and Reel; Manufacturer: On Semiconductor; PartNumber: 2SK4066-DL-1E; Channel Polarity: N Channel; Ciss Typ (pF): 12500; Configuration: Single; Coss Typ (pF): 1200; Crss Typ (pF): 950; ID Max (A): 100; V(BR)DSS Min (V): 60; VGS Max (V): 20; VGS(th) Max (V): 2.6; PackageVersion: Rev. O, 03/2012; PackageReference: TO-263-2L-3-418AP; PackageDescription: 3-Pin Flange Mount, Body 10 x 9.2 mm, Pitch 2.54 mm; Supplier 1: Newark; Supplier Part Number 1: 60W2037; Supplier 2: Mouser; Supplier Part Number 2: 863-2SK4066-DL-1E; Package Type: D2PAK / TO-263-2L; Packing: Tape and Reel; RoHS: Pb-Free; Mounting Technology: Surface Mount; ComponentLink1Description: Manufacturer URL; ComponentLink1URL: http://www.onsemi.com/; ComponentLink2Description: Datasheet; ComponentLink2URL: http://www.onsemi.com/pub_link/Collateral/2SK4066-D.PDF; ComponentLink3Description: Package Specification; ComponentLink3URL: http://www.onsemi.com/pub_link/Collateral/418AP.PDF
footprint ONSC-TO-263-2L-3-418AP_N (DPAK, 3-Leads, Body 10.2x9.4mm, Pitch 2.54mm, IPC Medium Density)
footprint ONSC-TO-263-2L-3-418AP_L (DPAK, 3-Leads, Body 10.2x9.4mm, Pitch 2.54mm, IPC High Density)
footprint ONSC-TO-263-2L-3-418AP_M (DPAK, 3-Leads, Body 10.2x9.4mm, Pitch 2.54mm, IPC Low Density)
pins: 1 G, 3 S, 4 D

## 2SK4085LS-1E
designator Q?
N-Channel Power MOSFET, 500 V, 16 A, 430 mOhm, 3-Pin TO-220, Pb-Free, Tube; Manufacturer: On Semiconductor; PartNumber: 2SK4085LS-1E; Channel Polarity: N Channel; Ciss Typ (pF): 1200; Configuration: Single; Coss Typ (pF): 250; Crss Typ (pF): 55; V(BR)DSS Min (V): 500; VGS Max (V): 30; VGS(th) Max (V): 5; PackageVersion: Rev. O, 01/2012; PackageReference: TO-220F-3FS-3-221AM; PackageDescription: 3-Pin Flange Mount, Vertical Straight Lead, Body 10.16 x 4.7 mm, Pitch 2.54 mm; Supplier 1: Newark; Supplier Part Number 1: 46W0046; Supplier 2: Mouser; Supplier Part Number 2: 863-2SK4085LS-1E; Package Type: TO-220F-3FS; Packing: Tube; RoHS: Pb-Free; Mounting Technology: Through Hole; ComponentLink1Description: Manufacturer URL; ComponentLink1URL: http://www.onsemi.com/; ComponentLink2Description: Datasheet; ComponentLink2URL: http://www.onsemi.com/pub_link/Collateral/2SK4085LS-D.PDF; ComponentLink3Description: Package Specification; ComponentLink3URL: http://www.onsemi.com/pub_link/Collateral/221AM.PDF
footprint ONSC-TO-220F-3FS-3-221AM (FM, 3-Leads, Body 10.4x4.9mm, Pitch 2.54mm)
pins: 1 G, 2 D, 3 S

## 2SK4087LS-1E
designator Q?
N-Channel Power MOSFET, 600 V, 14 A, 610 mOhm, 3-Pin TO-220, Pb-Free, Fan-Fold; Manufacturer: On Semiconductor; PartNumber: 2SK4087LS-1E; Channel Polarity: N Channel; Ciss Typ (pF): 1200; Configuration: Single; Coss Typ (pF): 220; Crss Typ (pF): 50; V(BR)DSS Min (V): 600; VGS Max (V): 30; VGS(th) Max (V): 5; PackageVersion: Rev. O, 01/2012; PackageReference: TO-220F-3FS-3-221AM; PackageDescription: 3-Pin Flange Mount, Vertical Straight Lead, Body 10.16 x 4.7 mm, Pitch 2.54 mm; Supplier 1: Newark; Supplier Part Number 1: 60W2038; Supplier 2: Mouser; Supplier Part Number 2: 863-2SK4087LS-1E; Package Type: TO-220F-3FS; Packing: Fan-Fold; RoHS: Pb-Free; Mounting Technology: Through Hole; ComponentLink1Description: Manufacturer URL; ComponentLink1URL: http://www.onsemi.com/; ComponentLink2Description: Datasheet; ComponentLink2URL: http://www.onsemi.com/pub_link/Collateral/ENA0555-D.PDF; ComponentLink3Description: Package Specification; ComponentLink3URL: http://www.onsemi.com/pub_link/Collateral/221AM.PDF
footprint ONSC-TO-220F-3FS-3-221AM (FM, 3-Leads, Body 10.4x4.9mm, Pitch 2.54mm)
pins: 1 G, 2 D, 3 S

## 2SK4088LS-1E
designator Q?
N-Channel Power MOSFET, 650 V, 11 A, 0.85 Ohm, 3-Pin TO-220, Pb-Free, Tube; Manufacturer: On Semiconductor; PartNumber: 2SK4088LS-1E; Channel Polarity: N Channel; Ciss Typ (pF): 1000; Configuration: Single; Coss Typ (pF): 172; Crss Typ (pF): 36; V(BR)DSS Min (V): 650; VGS Max (V): 30; VGS(th) Max (V): 5; PackageVersion: Rev. O, 01/2012; PackageReference: TO-220F-3FS-3-221AM; PackageDescription: 3-Pin Flange Mount, Vertical Straight Lead, Body 10.16 x 4.7 mm, Pitch 2.54 mm; Supplier 1: Newark; Supplier Part Number 1: 72W2516; Supplier 2: Mouser; Supplier Part Number 2: 863-2SK4088LS-1E; Package Type: TO-220F-3FS; Packing: Tube; RoHS: Pb-Free; Mounting Technology: Through Hole; ComponentLink1Description: Manufacturer URL; ComponentLink1URL: http://www.onsemi.com/; ComponentLink2Description: Datasheet; ComponentLink2URL: http://www.onsemi.com/pub_link/Collateral/2SK4088LS-D.PDF; ComponentLink3Description: Package Specification; ComponentLink3URL: http://www.onsemi.com/pub_link/Collateral/221AM.PDF
footprint ONSC-TO-220F-3FS-3-221AM (FM, 3-Leads, Body 10.4x4.9mm, Pitch 2.54mm)
pins: 1 G, 2 D, 3 S

## 2SK4094-1E
designator Q?
N-Channel Power MOSFET, 60 V, 100 A, 5 mOhm, 3-Pin TO-220, Pb-Free, Tube; Manufacturer: On Semiconductor; PartNumber: 2SK4094-1E; Channel Polarity: N Channel; Ciss Typ (pF): 12500; Configuration: Single; Coss Typ (pF): 1200; Crss Typ (pF): 950; ID Max (A): 100; V(BR)DSS Min (V): 60; VGS Max (V): 20; VGS(th) Max (V): 2.6; PackageVersion: Rev. O, 03/2012; PackageReference: TO-220-3L-3-221AU; PackageDescription: 3-Pin Flange Mount, Vertical Straight Lead, Body 10 x 4.5 mm, Pitch 2.54 mm; Package Type: TO-220 3-Lead / TO-220-3L; Packing: Tube; RoHS: Pb-Free; Mounting Technology: Through Hole; ComponentLink1Description: Manufacturer URL; ComponentLink1URL: http://www.onsemi.com/; ComponentLink2Description: Datasheet; ComponentLink2URL: http://www.onsemi.com/pub_link/Collateral/ENA0523-D.PDF; ComponentLink3Description: Package Specification; ComponentLink3URL: http://www.onsemi.com/pub_link/Collateral/221AU.PDF
footprint ONSC-TO-220-3L-3-221AU (FM, 3-Leads, Body 10.2x4.7mm, Pitch 2.54mm)
pins: 1 G, 2 D, 3 S

## 2SK4096LS-1E
designator Q?
N-Channel Power MOSFET, 500 V, 8 A, 850 mOhm, 3-Pin TO-220, Pb-Free, Tube; Manufacturer: On Semiconductor; PartNumber: 2SK4096LS-1E; Channel Polarity: N Channel; Ciss Typ (pF): 600; Configuration: Single; Coss Typ (pF): 130; Crss Typ (pF): 28; V(BR)DSS Min (V): 500; VGS Max (V): 30; VGS(th) Max (V): 5; PackageVersion: Rev. O, 01/2012; PackageReference: TO-220F-3FS-3-221AM; PackageDescription: 3-Pin Flange Mount, Vertical Straight Lead, Body 10.16 x 4.7 mm, Pitch 2.54 mm; Package Type: TO-220F-3FS; Packing: Tube; RoHS: Pb-Free; Mounting Technology: Through Hole; ComponentLink1Description: Manufacturer URL; ComponentLink1URL: http://www.onsemi.com/; ComponentLink2Description: Datasheet; ComponentLink2URL: http://www.onsemi.com/pub_link/Collateral/ENA0774-D.PDF; ComponentLink3Description: Package Specification; ComponentLink3URL: http://www.onsemi.com/pub_link/Collateral/221AM.PDF
footprint ONSC-TO-220F-3FS-3-221AM (FM, 3-Leads, Body 10.4x4.9mm, Pitch 2.54mm)
pins: 1 G, 2 D, 3 S

## 2SK4099LS-1E
designator Q?
N-Channel Power MOSFET, 600 V, 8.5 A, 0.94 Ohm, 3-Pin TO-220, Pb-Free, Tube; Manufacturer: On Semiconductor; PartNumber: 2SK4099LS-1E; Channel Polarity: N Channel; Ciss Typ (pF): 750; Configuration: Single; Coss Typ (pF): 140; Crss Typ (pF): 31; V(BR)DSS Min (V): 600; VGS Max (V): 30; VGS(th) Max (V): 5; PackageVersion: Rev. O, 01/2012; PackageReference: TO-220F-3FS-3-221AM; PackageDescription: 3-Pin Flange Mount, Vertical Straight Lead, Body 10.16 x 4.7 mm, Pitch 2.54 mm; Supplier 1: Newark; Supplier Part Number 1: 72W2517; Supplier 2: Mouser; Supplier Part Number 2: 863-2SK4099LS-1E; Package Type: TO-220F-3FS; Packing: Tube; RoHS: Pb-Free; Mounting Technology: Through Hole; ComponentLink1Description: Manufacturer URL; ComponentLink1URL: http://www.onsemi.com/; ComponentLink2Description: Datasheet; ComponentLink2URL: http://www.onsemi.com/pub_link/Collateral/2SK4099LS-D.PDF; ComponentLink3Description: Package Specification; ComponentLink3URL: http://www.onsemi.com/pub_link/Collateral/221AM.PDF
footprint ONSC-TO-220F-3FS-3-221AM (FM, 3-Leads, Body 10.4x4.9mm, Pitch 2.54mm)
pins: 1 G, 2 D, 3 S

## 2SK4124-1E
designator Q?
N-Channel Power MOSFET, 500 V, 20 A, 430 mOhm, 3-Pin TO-3P, Pb-Free, Tube; Manufacturer: On Semiconductor; PartNumber: 2SK4124-1E; Channel Polarity: N Channel; Ciss Typ (pF): 1200; Configuration: Single; Coss Typ (pF): 250; Crss Typ (pF): 55; ID Max (A): 20; V(BR)DSS Min (V): 500; VGS Max (V): 30; VGS(th) Max (V): 5; PackageVersion: Rev. O, 04/2012; PackageReference: TO-3P-3L-3-340AF; PackageDescription: 3-Pin Flange Mount, Vertical Straight Lead, Body 15.6 x 4.8 mm, Pitch 5.45 mm; Supplier 1: Newark; Supplier Part Number 1: 11X5259; Supplier 2: Mouser; Supplier Part Number 2: 863-2SK4124-1E; Package Type: TO-3P-3L; Packing: Tube; RoHS: Pb-Free; Mounting Technology: Through Hole; ComponentLink1Description: Manufacturer URL; ComponentLink1URL: http://www.onsemi.com/; ComponentLink2Description: Datasheet; ComponentLink2URL: http://www.onsemi.com/pub_link/Collateral/2SK4124-D.PDF; ComponentLink3Description: Package Specification; ComponentLink3URL: http://www.onsemi.com/pub_link/Collateral/340AF.PDF
footprint ONSC-TO-3P-3L-3-340AF (FM, 3-Leads, Body 15.8x5mm, Pitch 5.45mm)
pins: 1 G, 2 D, 3 S

## 2SK4125-1E
designator Q?
N-Channel Power MOSFET, 600 V, 17 A, 610 mOhm, 3-Pin TO-3P, Pb-Free, Tube; Manufacturer: On Semiconductor; PartNumber: 2SK4125-1E; Channel Polarity: N Channel; Ciss Typ (pF): 1200; Configuration: Single; Coss Typ (pF): 220; Crss Typ (pF): 50; ID Max (A): 17; V(BR)DSS Min (V): 600; VGS Max (V): 30; VGS(th) Max (V): 5; PackageVersion: Rev. O, 04/2012; PackageReference: TO-3P-3L-3-340AF; PackageDescription: 3-Pin Flange Mount, Vertical Straight Lead, Body 15.6 x 4.8 mm, Pitch 5.45 mm; Supplier 1: Newark; Supplier Part Number 1: 60W2039; Supplier 2: Mouser; Supplier Part Number 2: 863-2SK4125-1E; Package Type: TO-3P-3L; Packing: Tube; RoHS: Pb-Free; Mounting Technology: Through Hole; ComponentLink1Description: Manufacturer URL; ComponentLink1URL: http://www.onsemi.com/; ComponentLink2Description: Datasheet; ComponentLink2URL: http://www.onsemi.com/pub_link/Collateral/2SK4125-D.PDF; ComponentLink3Description: Package Specification; ComponentLink3URL: http://www.onsemi.com/pub_link/Collateral/340AF.PDF
footprint ONSC-TO-3P-3L-3-340AF (FM, 3-Leads, Body 15.8x5mm, Pitch 5.45mm)
pins: 1 G, 2 D, 3 S

## 2SK4177-DL-1E
designator Q?
N-Channel Power MOSFET, 1500 V, 2 A, 13 Ohm, 3-Pin TO-263, Pb-Free, Tape and Reel; Manufacturer: On Semiconductor; PartNumber: 2SK4177-DL-1E; Channel Polarity: N Channel; Ciss Typ (pF): 380; Configuration: Single; Coss Typ (pF): 70; Crss Typ (pF): 40; ID Max (A): 2; PD Max (W): 80; V(BR)DSS Min (V): 1500; VGS Max (V): 20; VGS(th) Max (V): 3.5; PackageReference: TO-263-2L-3; PackageDescription: 3-Pin Flange Mount, Body 10 x 9.2 mm, Pitch 2.54 mm; Supplier 1: Newark; Supplier Part Number 1: 60W2040; Supplier 2: Mouser; Supplier Part Number 2: 863-2SK4177-DL-1E; Package Type: D2PAK / TO-263-2L; Packing: Tape and Reel; RoHS: Pb-Free; Mounting Technology: Surface Mount; ComponentLink1Description: Manufacturer URL; ComponentLink1URL: http://www.onsemi.com/; ComponentLink2Description: Datasheet; ComponentLink2URL: http://www.onsemi.com/pub_link/Collateral/ENA0869-D.PDF; ComponentLink3Description: Package Specification; ComponentLink3URL: http://www.onsemi.com/pub_link/Collateral/2SK3820-D.PDF
footprint ONSC-TO-263-2L-3_V (FM, 3-Leads, Body 10x9.2mm, Pitch 2.54mm)
pins: 1 G, 3 S, 4 D

## 2SK4196LS-1E
designator Q?
N-Channel Power MOSFET, 500 V, 5.5 A, 1.56 Ohm, 3-Pin TO-220, Pb-Free, Tube; Manufacturer: On Semiconductor; PartNumber: 2SK4196LS-1E; Channel Polarity: N Channel; Ciss Typ (pF): 360; Configuration: Single; Coss Typ (pF): 77; Crss Typ (pF): 17; V(BR)DSS Min (V): 500; VGS Max (V): 30; VGS(th) Max (V): 5; PackageVersion: Rev. O, 01/2012; PackageReference: TO-220F-3FS-3-221AM; PackageDescription: 3-Pin Flange Mount, Vertical Straight Lead, Body 10.16 x 4.7 mm, Pitch 2.54 mm; Package Type: TO-220F-3FS; Packing: Tube; RoHS: Pb-Free; Mounting Technology: Through Hole; ComponentLink1Description: Manufacturer URL; ComponentLink1URL: http://www.onsemi.com/; ComponentLink2Description: Datasheet; ComponentLink2URL: http://www.onsemi.com/pub_link/Collateral/ENA1233-D.PDF; ComponentLink3Description: Package Specification; ComponentLink3URL: http://www.onsemi.com/pub_link/Collateral/221AM.PDF
footprint ONSC-TO-220F-3FS-3-221AM (FM, 3-Leads, Body 10.4x4.9mm, Pitch 2.54mm)
pins: 1 G, 2 D, 3 S